# Altium schematic symbol library bq25185.SCHLIB: 3 symbols
Pins are listed as number, name and electrical type; pins without a type are passive.

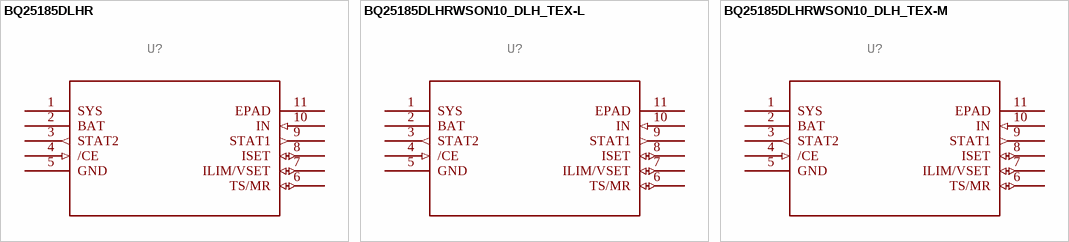
[diagram p0: symbols BQ25185DLHR to BQ25185DLHRWSON10_DLH_TEX-M]

## BQ25185DLHR
designator U?
MANUFACTURER_NAME: Texas Instruments; GateName_1: A; SymbolName_1: BQ25185DLHR; DESCRIPTION: 1-cell, 1-A stand-alone linear battery charger with power path and solar input support 10-WSON -40 to 125; LibraryName: bq25185; DeviceSetName: BQ25185DLHR; Package: WSON10_DLH_TEX; COPYRIGHT: Copyright (C) 2025 Ultra Librarian. All rights reserved.; DATASHEET: https://www.ti.com/lit/gpn/bq25185; MANUFACTURER_PART_NUMBER: BQ25185DLHR; TYPE: Power Management
footprint WSON10_DLH_TEX
pins: 1 SYS (power), 2 BAT (power), 3 STAT2 (out), 4 /CE (in), 5 GND, 6 TS/MR (io), 7 ILIM/VSET (io), 8 ISET (io), 9 STAT1 (out), 10 IN (in), 11 EPAD

## BQ25185DLHRWSON10_DLH_TEX-L
designator U?
MANUFACTURER_NAME: Texas Instruments; GateName_1: A; SymbolName_1: BQ25185DLHR; DeviceName: WSON10_DLH_TEX-L; DESCRIPTION: 1-cell, 1-A stand-alone linear battery charger with power path and solar input support 10-WSON -40 to 125; LibraryName: bq25185; DeviceSetName: BQ25185DLHR; Package: WSON10_DLH_TEX-L; COPYRIGHT: Copyright (C) 2025 Ultra Librarian. All rights reserved.; DATASHEET: https://www.ti.com/lit/gpn/bq25185; MANUFACTURER_PART_NUMBER: BQ25185DLHR; TYPE: Power Management
footprint WSON10_DLH_TEX-L
pins: 1 SYS (power), 2 BAT (power), 3 STAT2 (out), 4 /CE (in), 5 GND, 6 TS/MR (io), 7 ILIM/VSET (io), 8 ISET (io), 9 STAT1 (out), 10 IN (in), 11 EPAD

## BQ25185DLHRWSON10_DLH_TEX-M
designator U?
MANUFACTURER_NAME: Texas Instruments; GateName_1: A; SymbolName_1: BQ25185DLHR; DeviceName: WSON10_DLH_TEX-M; DESCRIPTION: 1-cell, 1-A stand-alone linear battery charger with power path and solar input support 10-WSON -40 to 125; LibraryName: bq25185; DeviceSetName: BQ25185DLHR; Package: WSON10_DLH_TEX-M; COPYRIGHT: Copyright (C) 2025 Ultra Librarian. All rights reserved.; DATASHEET: https://www.ti.com/lit/gpn/bq25185; MANUFACTURER_PART_NUMBER: BQ25185DLHR; TYPE: Power Management
footprint WSON10_DLH_TEX-M
pins: 1 SYS (power), 2 BAT (power), 3 STAT2 (out), 4 /CE (in), 5 GND, 6 TS/MR (io), 7 ILIM/VSET (io), 8 ISET (io), 9 STAT1 (out), 10 IN (in), 11 EPAD